# Altium integrated library Xilinx XC17S00.IntLib: 62 symbols (part 2 of 2)
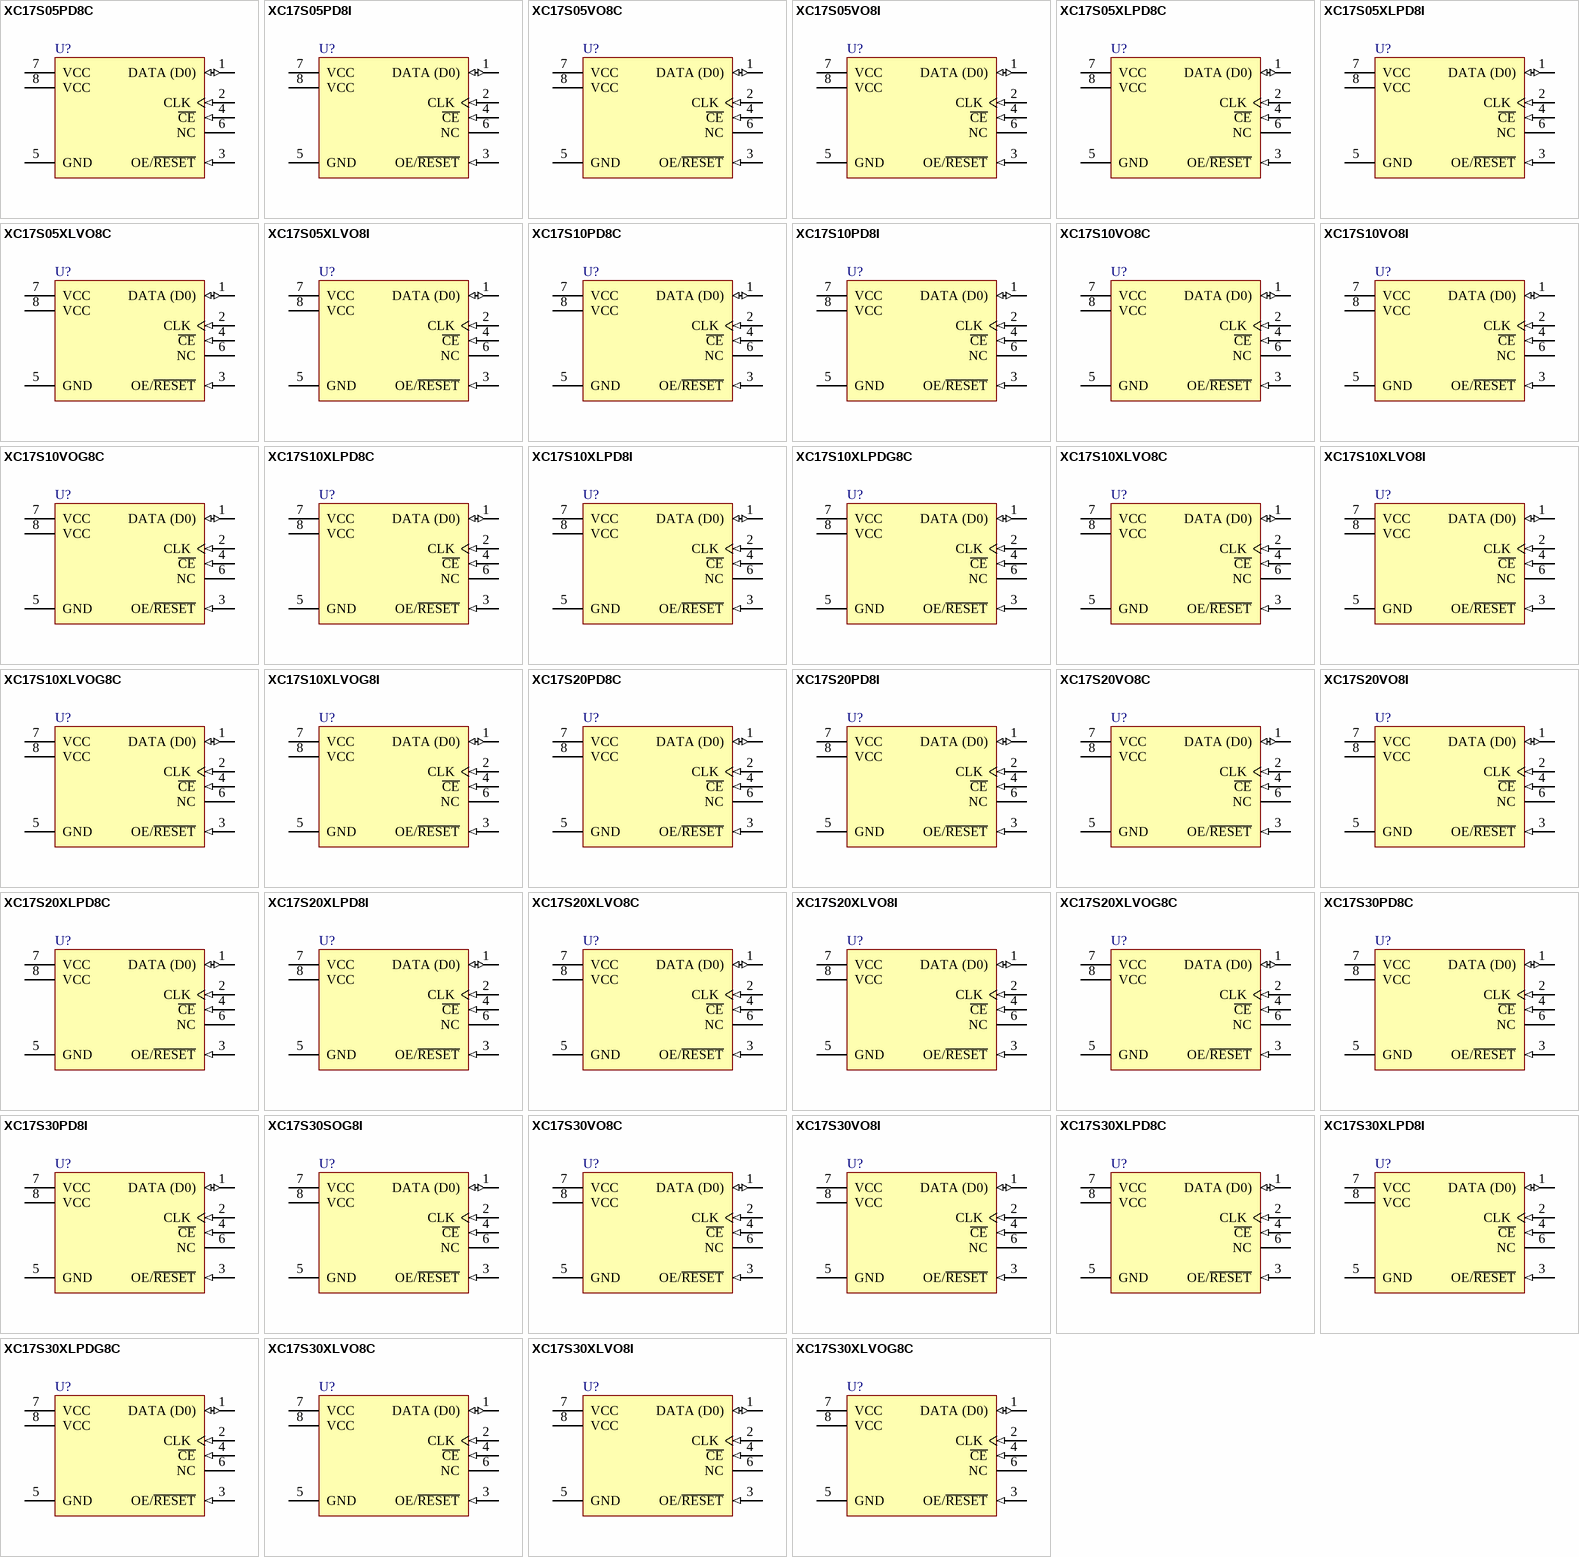
[diagram p2: symbols XC17S05PD8C to XC17S30XLVOG8C]

## XC17S30VO8I
designator U?
XC17S00 Series, One-Time Programmable Configuration 5V PROM, 8-Pin TSOP, XCS30 Compatible, Industrial Grade; Published: 17-Dec-2003; LatestRevisionDate: 16-Nov-2009; LatestRevisionNote: Updated to datasheet version 1.12, Jun-2008.; DatasheetVersion: ver1.12, Jun-2008; PackageVersion: ver1.1, Apr-2001; PackageReference: VO8; Publisher: Altium Limited; PackageDescription: 8-Pin Thin Small Outline Package (VO8); Supplier 1: Digi-Key; Supplier Part Number 1: XC17S30VO8I-ND; ComponentLink1Description: XC17S00/XL Datasheet; ComponentLink1URL: http://www.xilinx.com/support/documentation/data_sheets/ds030.pdf; ComponentLink2Description: VO8 Package Drawing; ComponentLink2URL: http://www.xilinx.com/support/documentation/package_specs/vo8.pdf; ComponentLink3Description: Configuration PROM Documents; ComponentLink3URL: http://www.xilinx.com/support/documentation/configuration_proms.htm; ComponentLink4Description: Xilinx.com Home; ComponentLink4URL: http://www.xilinx.com
footprint VO8_N (SOIC, 8-Leads, Body 4.9x3.9mm, Pitch 1.27mm, IPC Medium Density)
footprint VO8_L (SOIC, 8-Leads, Body 4.9x3.9mm, Pitch 1.27mm, IPC High Density)
footprint VO8_M (SOIC, 8-Leads, Body 4.9x3.9mm, Pitch 1.27mm, IPC Low Density)
pins: 1 DATA (D0) (io) "Data Output.", 2 CLK (in) "Clock input for internal address counter.", 3 OE/~{RESET} (in) "DATA Output Enable/Address Counter Reset", 4 ~{CE} (in) "Reset internal Address Counter, Disable DATA Output, Force device into Standby Mode.", 5 GND (power) "Ground.", 6 NC "No Connection.", 7 VCC (power) "Positive Supply.", 8 VCC (power) "Positive Supply."

## XC17S30XLPD8C
designator U?
XC17S00XL Series, One-Time Programmable Configuration 3.3V PROM, 8-Pin PDIP, XCS30XL Compatible, Commercial Grade; Published: 17-Dec-2003; DatasheetVersion: ver1.12, Jun-2008; PackageVersion: rev1.1, Apr-2001; PackageReference: PD8; Publisher: Altium Limited; PackageDescription: 8-Pin Plastic DIP (PD8); Supplier 1: Digi-Key; Supplier Part Number 1: XC17S30XLPD8C-ND; Code_JEDEC: MS-001-BA; ComponentLink1Description: XC17S00/XL Datasheet; ComponentLink1URL: http://www.xilinx.com/support/documentation/data_sheets/ds030.pdf; ComponentLink2Description: PD8 Package Drawing; ComponentLink2URL: http://www.xilinx.com/support/documentation/package_specs/pd08.pdf; ComponentLink3Description: Configuration PROM Documents; ComponentLink3URL: http://www.xilinx.com/support/documentation/configuration_proms.htm; ComponentLink4Description: Xilinx.com Home; ComponentLink4URL: http://www.xilinx.com
footprint PD8 (DIP, 8-Leads, Row Spacing 7.62mm, Pitch 2.54mm, Body 9.36x6.5mm)
pins: 1 DATA (D0) (io) "Data Output.", 2 CLK (in) "Clock input for internal address counter.", 3 OE/~{RESET} (in) "DATA Output Enable/Address Counter Reset", 4 ~{CE} (in) "Reset internal Address Counter, Disable DATA Output, Force device into Standby Mode.", 5 GND (power) "Ground.", 6 NC "No Connection.", 7 VCC (power) "Positive Supply.", 8 VCC (power) "Positive Supply."

## XC17S30XLPD8I
designator U?
XC17S00XL Series, One-Time Programmable Configuration 3.3V PROM, 8-Pin PDIP, XCS30XL Compatible, Industrial Grade; Published: 17-Dec-2003; DatasheetVersion: ver1.12, Jun-2008; PackageVersion: rev1.1, Apr-2001; PackageReference: PD8; Publisher: Altium Limited; PackageDescription: 8-Pin Plastic DIP (PD8); Supplier 1: Digi-Key; Supplier Part Number 1: XC17S30XLPD8I-ND; Code_JEDEC: MS-001-BA; ComponentLink1Description: XC17S00/XL Datasheet; ComponentLink1URL: http://www.xilinx.com/support/documentation/data_sheets/ds030.pdf; ComponentLink2Description: PD8 Package Drawing; ComponentLink2URL: http://www.xilinx.com/support/documentation/package_specs/pd08.pdf; ComponentLink3Description: Configuration PROM Documents; ComponentLink3URL: http://www.xilinx.com/support/documentation/configuration_proms.htm; ComponentLink4Description: Xilinx.com Home; ComponentLink4URL: http://www.xilinx.com
footprint PD8 (DIP, 8-Leads, Row Spacing 7.62mm, Pitch 2.54mm, Body 9.36x6.5mm)
pins: 1 DATA (D0) (io) "Data Output.", 2 CLK (in) "Clock input for internal address counter.", 3 OE/~{RESET} (in) "DATA Output Enable/Address Counter Reset", 4 ~{CE} (in) "Reset internal Address Counter, Disable DATA Output, Force device into Standby Mode.", 5 GND (power) "Ground.", 6 NC "No Connection.", 7 VCC (power) "Positive Supply.", 8 VCC (power) "Positive Supply."

## XC17S30XLPDG8C
designator U?
XC17S00XL Series, One-Time Programmable Configuration 3.3V PROM, 8-Pin PDIP, XCS30XL Compatible, Commercial Grade, Pb-Free; Published: 17-Nov-2009; DatasheetVersion: ver1.12, Jun-2008; PackageVersion: rev1.1, Apr-2001; PackageReference: PDG8; Publisher: Altium Limited; PackageDescription: 8-Pin Plastic DIP (PDG8), Pb-Free; Supplier 1: Digi-Key; Supplier Part Number 1: XC17S30XLPDG8C-ND; Supplier 2: Farnell; Supplier Part Number 2: 1193222; Supplier 3: Newark; Supplier Part Number 3: 98K3363; Code_JEDEC: MS-001-BA; ComponentLink1Description: XC17S00/XL Datasheet; ComponentLink1URL: http://www.xilinx.com/support/documentation/data_sheets/ds030.pdf; ComponentLink2Description: PDG8 Package Drawing; ComponentLink2URL: http://www.xilinx.com/support/documentation/package_specs/pd08.pdf; ComponentLink3Description: Configuration PROM Documents; ComponentLink3URL: http://www.xilinx.com/support/documentation/configuration_proms.htm; ComponentLink4Description: Xilinx.com Home; ComponentLink4URL: http://www.xilinx.com
footprint PDG8 (DIP, 8-Leads, Row Spacing 7.62mm, Pitch 2.54mm, Body 9.36x6.5mm)
pins: 1 DATA (D0) (io) "Data Output.", 2 CLK (in) "Clock input for internal address counter.", 3 OE/~{RESET} (in) "DATA Output Enable/Address Counter Reset", 4 ~{CE} (in) "Reset internal Address Counter, Disable DATA Output, Force device into Standby Mode.", 5 GND (power) "Ground.", 6 NC "No Connection.", 7 VCC (power) "Positive Supply.", 8 VCC (power) "Positive Supply."

## XC17S30XLVO8C
designator U?
XC17S00XL Series, One-Time Programmable Configuration 3.3V PROM, 8-Pin TSOP, XCS30XL Compatible, Commercial Grade; Published: 17-Dec-2003; LatestRevisionDate: 16-Nov-2009; LatestRevisionNote: Updated to datasheet version 1.12, Jun-2008.; DatasheetVersion: ver1.12, Jun-2008; PackageVersion: ver1.1, Apr-2001; PackageReference: VO8; Publisher: Altium Limited; PackageDescription: 8-Pin Thin Small Outline Package (VO8); Supplier 1: Digi-Key; Supplier Part Number 1: XC17S30XLVO8C-ND; ComponentLink1Description: XC17S00/XL Datasheet; ComponentLink1URL: http://www.xilinx.com/support/documentation/data_sheets/ds030.pdf; ComponentLink2Description: VO8 Package Drawing; ComponentLink2URL: http://www.xilinx.com/support/documentation/package_specs/vo8.pdf; ComponentLink3Description: Configuration PROM Documents; ComponentLink3URL: http://www.xilinx.com/support/documentation/configuration_proms.htm; ComponentLink4Description: Xilinx.com Home; ComponentLink4URL: http://www.xilinx.com
footprint VO8_N (SOIC, 8-Leads, Body 4.9x3.9mm, Pitch 1.27mm, IPC Medium Density)
footprint VO8_L (SOIC, 8-Leads, Body 4.9x3.9mm, Pitch 1.27mm, IPC High Density)
footprint VO8_M (SOIC, 8-Leads, Body 4.9x3.9mm, Pitch 1.27mm, IPC Low Density)
pins: 1 DATA (D0) (io) "Data Output.", 2 CLK (in) "Clock input for internal address counter.", 3 OE/~{RESET} (in) "DATA Output Enable/Address Counter Reset", 4 ~{CE} (in) "Reset internal Address Counter, Disable DATA Output, Force device into Standby Mode.", 5 GND (power) "Ground.", 6 NC "No Connection.", 7 VCC (power) "Positive Supply.", 8 VCC (power) "Positive Supply."

## XC17S30XLVO8I
designator U?
XC17S00XL Series, One-Time Programmable Configuration 3.3V PROM, 8-Pin TSOP, XCS30XL Compatible, Industrial Grade; Published: 17-Dec-2003; LatestRevisionDate: 16-Nov-2009; LatestRevisionNote: Updated to datasheet version 1.12, Jun-2008.; DatasheetVersion: ver1.12, Jun-2008; PackageVersion: ver1.1, Apr-2001; PackageReference: VO8; Publisher: Altium Limited; PackageDescription: 8-Pin Thin Small Outline Package (VO8); Supplier 1: Digi-Key; Supplier Part Number 1: XC17S30XLVO8I-ND; ComponentLink1Description: XC17S00/XL Datasheet; ComponentLink1URL: http://www.xilinx.com/support/documentation/data_sheets/ds030.pdf; ComponentLink2Description: VO8 Package Drawing; ComponentLink2URL: http://www.xilinx.com/support/documentation/package_specs/vo8.pdf; ComponentLink3Description: Configuration PROM Documents; ComponentLink3URL: http://www.xilinx.com/support/documentation/configuration_proms.htm; ComponentLink4Description: Xilinx.com Home; ComponentLink4URL: http://www.xilinx.com
footprint VO8_N (SOIC, 8-Leads, Body 4.9x3.9mm, Pitch 1.27mm, IPC Medium Density)
footprint VO8_L (SOIC, 8-Leads, Body 4.9x3.9mm, Pitch 1.27mm, IPC High Density)
footprint VO8_M (SOIC, 8-Leads, Body 4.9x3.9mm, Pitch 1.27mm, IPC Low Density)
pins: 1 DATA (D0) (io) "Data Output.", 2 CLK (in) "Clock input for internal address counter.", 3 OE/~{RESET} (in) "DATA Output Enable/Address Counter Reset", 4 ~{CE} (in) "Reset internal Address Counter, Disable DATA Output, Force device into Standby Mode.", 5 GND (power) "Ground.", 6 NC "No Connection.", 7 VCC (power) "Positive Supply.", 8 VCC (power) "Positive Supply."

## XC17S30XLVOG8C
designator U?
XC17S00XL Series, One-Time Programmable Configuration 3.3V PROM, 8-Pin TSOP, XCS30XL Compatible, Commercial Grade, Pb-Free; Published: 17-Nov-2009; DatasheetVersion: ver1.12, Jun-2008; PackageVersion: ver1.1, Apr-2001; PackageReference: VOG8; Publisher: Altium Limited; PackageDescription: 8-Pin Thin Small Outline Package (VOG8) - Pb-Free; Supplier 1: Digi-Key; Supplier Part Number 1: XC17S30XLVOG8C-ND; ComponentLink1Description: XC17S00/XL Datasheet; ComponentLink1URL: http://www.xilinx.com/support/documentation/data_sheets/ds030.pdf; ComponentLink2Description: VOG8 Package Drawing; ComponentLink2URL: http://www.xilinx.com/support/documentation/package_specs/vo8.pdf; ComponentLink3Description: Configuration PROM Documents; ComponentLink3URL: http://www.xilinx.com/support/documentation/configuration_proms.htm; ComponentLink4Description: Xilinx.com Home; ComponentLink4URL: http://www.xilinx.com
footprint VOG8_N (SOIC, 8-Leads, Body 4.9x3.9mm, Pitch 1.27mm, IPC Medium Density)
footprint VOG8_L (SOIC, 8-Leads, Body 4.9x3.9mm, Pitch 1.27mm, IPC High Density)
footprint VOG8_M (SOIC, 8-Leads, Body 4.9x3.9mm, Pitch 1.27mm, IPC Low Density)
pins: 1 DATA (D0) (io) "Data Output.", 2 CLK (in) "Clock input for internal address counter.", 3 OE/~{RESET} (in) "DATA Output Enable/Address Counter Reset", 4 ~{CE} (in) "Reset internal Address Counter, Disable DATA Output, Force device into Standby Mode.", 5 GND (power) "Ground.", 6 NC "No Connection.", 7 VCC (power) "Positive Supply.", 8 VCC (power) "Positive Supply."

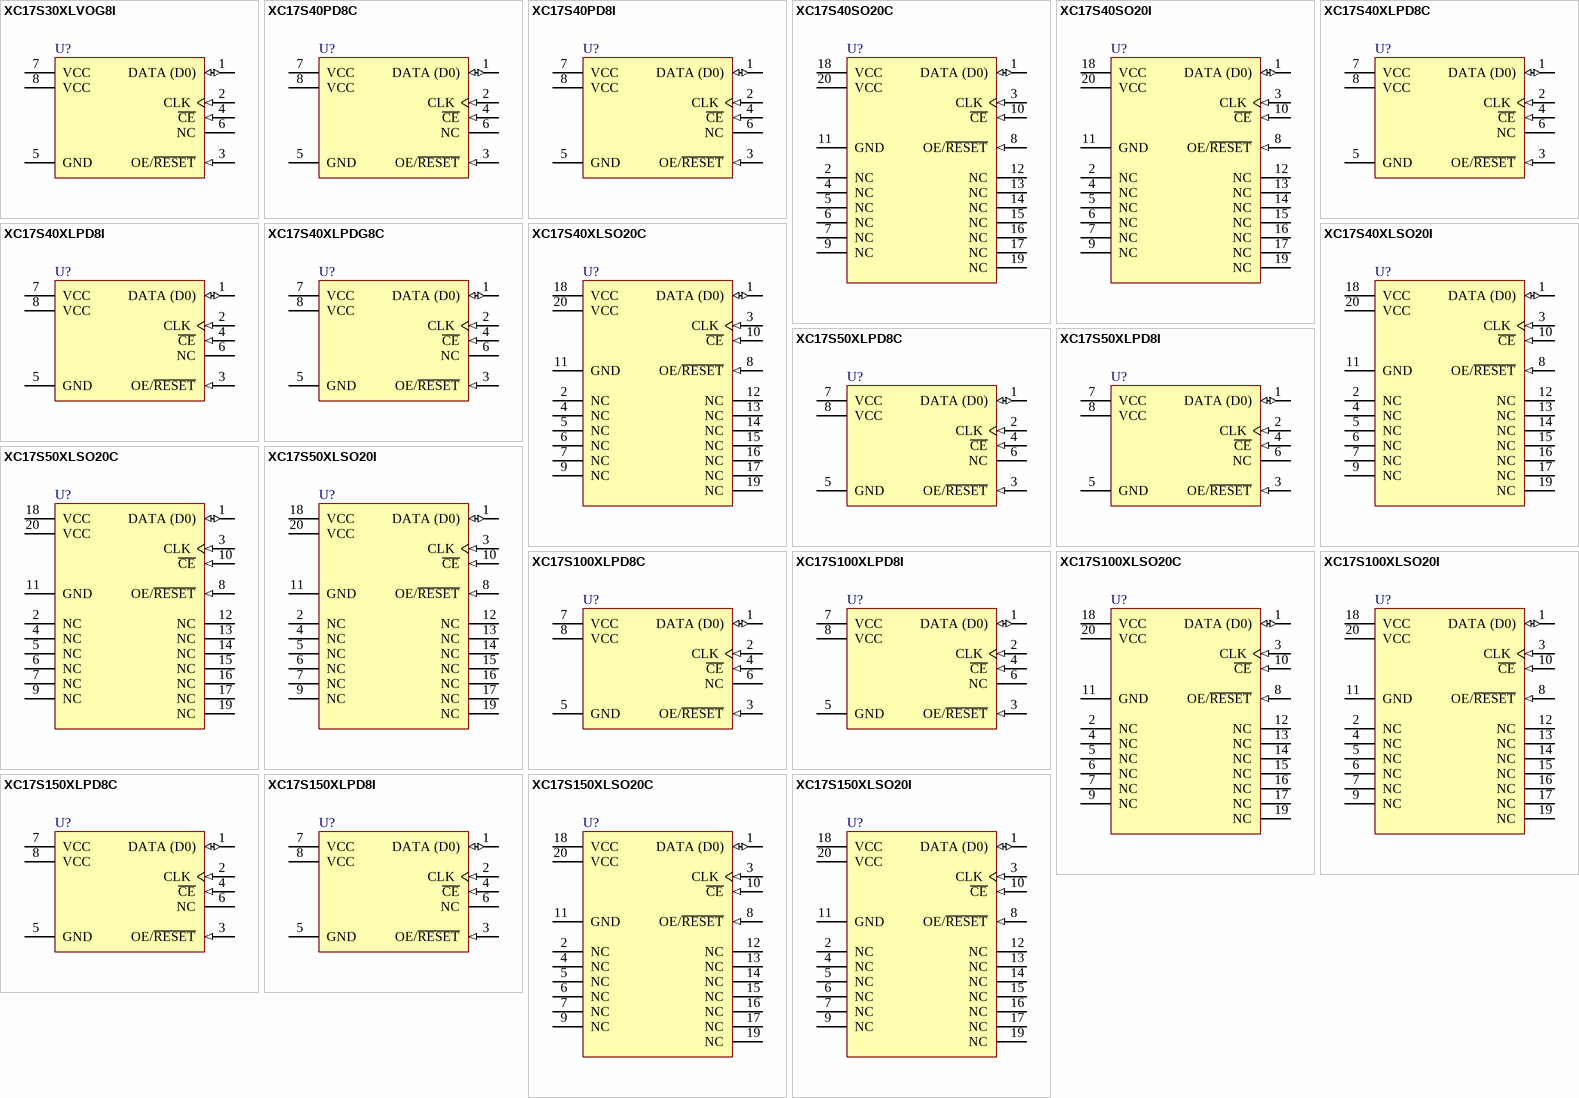
[diagram p1: symbols XC17S30XLVOG8I to XC17S150XLSO20I]

## XC17S30XLVOG8I
designator U?
XC17S00XL Series, One-Time Programmable Configuration 3.3V PROM, 8-Pin TSOP, XCS30XL Compatible, Industrial Grade, Pb-Free; Published: 17-Nov-2009; DatasheetVersion: ver1.12, Jun-2008; PackageVersion: ver1.1, Apr-2001; PackageReference: VOG8; Publisher: Altium Limited; PackageDescription: 8-Pin Thin Small Outline Package (VOG8) - Pb-Free; Supplier 1: Digi-Key; Supplier Part Number 1: XC17S30XLVOG8I-ND; ComponentLink1Description: XC17S00/XL Datasheet; ComponentLink1URL: http://www.xilinx.com/support/documentation/data_sheets/ds030.pdf; ComponentLink2Description: VOG8 Package Drawing; ComponentLink2URL: http://www.xilinx.com/support/documentation/package_specs/vo8.pdf; ComponentLink3Description: Configuration PROM Documents; ComponentLink3URL: http://www.xilinx.com/support/documentation/configuration_proms.htm; ComponentLink4Description: Xilinx.com Home; ComponentLink4URL: http://www.xilinx.com
footprint VOG8_N (SOIC, 8-Leads, Body 4.9x3.9mm, Pitch 1.27mm, IPC Medium Density)
footprint VOG8_L (SOIC, 8-Leads, Body 4.9x3.9mm, Pitch 1.27mm, IPC High Density)
footprint VOG8_M (SOIC, 8-Leads, Body 4.9x3.9mm, Pitch 1.27mm, IPC Low Density)
pins: 1 DATA (D0) (io) "Data Output.", 2 CLK (in) "Clock input for internal address counter.", 3 OE/~{RESET} (in) "DATA Output Enable/Address Counter Reset", 4 ~{CE} (in) "Reset internal Address Counter, Disable DATA Output, Force device into Standby Mode.", 5 GND (power) "Ground.", 6 NC "No Connection.", 7 VCC (power) "Positive Supply.", 8 VCC (power) "Positive Supply."

## XC17S40PD8C
designator U?
XC17S00 Series, One-Time Programmable Configuration 5V PROM, 8-Pin PDIP, XCS40 Compatible, Commercial Grade; Published: 17-Dec-2003; DatasheetVersion: ver1.12, Jun-2008; PackageVersion: rev1.1, Apr-2001; PackageReference: PD8; Publisher: Altium Limited; PackageDescription: 8-Pin Plastic DIP (PD8); Supplier 1: Digi-Key; Supplier Part Number 1: 122-1275-ND; Code_JEDEC: MS-001-BA; ComponentLink1Description: XC17S00/XL Datasheet; ComponentLink1URL: http://www.xilinx.com/support/documentation/data_sheets/ds030.pdf; ComponentLink2Description: PD8 Package Drawing; ComponentLink2URL: http://www.xilinx.com/support/documentation/package_specs/pd08.pdf; ComponentLink3Description: Configuration PROM Documents; ComponentLink3URL: http://www.xilinx.com/support/documentation/configuration_proms.htm; ComponentLink4Description: Xilinx.com Home; ComponentLink4URL: http://www.xilinx.com
footprint PD8 (DIP, 8-Leads, Row Spacing 7.62mm, Pitch 2.54mm, Body 9.36x6.5mm)
pins: 1 DATA (D0) (io) "Data Output.", 2 CLK (in) "Clock input for internal address counter.", 3 OE/~{RESET} (in) "DATA Output Enable/Address Counter Reset", 4 ~{CE} (in) "Reset internal Address Counter, Disable DATA Output, Force device into Standby Mode.", 5 GND (power) "Ground.", 6 NC "No Connection.", 7 VCC (power) "Positive Supply.", 8 VCC (power) "Positive Supply."

## XC17S40PD8I
designator U?
XC17S00 Series, One-Time Programmable Configuration 5V PROM, 8-Pin PDIP, XCS40 Compatible, Industrial Grade; Published: 17-Dec-2003; DatasheetVersion: ver1.12, Jun-2008; PackageVersion: rev1.1, Apr-2001; PackageReference: PD8; Publisher: Altium Limited; PackageDescription: 8-Pin Plastic DIP (PD8); Supplier 1: Digi-Key; Supplier Part Number 1: XC17S40PD8I-ND; Code_JEDEC: MS-001-BA; ComponentLink1Description: XC17S00/XL Datasheet; ComponentLink1URL: http://www.xilinx.com/support/documentation/data_sheets/ds030.pdf; ComponentLink2Description: PD8 Package Drawing; ComponentLink2URL: http://www.xilinx.com/support/documentation/package_specs/pd08.pdf; ComponentLink3Description: Configuration PROM Documents; ComponentLink3URL: http://www.xilinx.com/support/documentation/configuration_proms.htm; ComponentLink4Description: Xilinx.com Home; ComponentLink4URL: http://www.xilinx.com
footprint PD8 (DIP, 8-Leads, Row Spacing 7.62mm, Pitch 2.54mm, Body 9.36x6.5mm)
pins: 1 DATA (D0) (io) "Data Output.", 2 CLK (in) "Clock input for internal address counter.", 3 OE/~{RESET} (in) "DATA Output Enable/Address Counter Reset", 4 ~{CE} (in) "Reset internal Address Counter, Disable DATA Output, Force device into Standby Mode.", 5 GND (power) "Ground.", 6 NC "No Connection.", 7 VCC (power) "Positive Supply.", 8 VCC (power) "Positive Supply."

## XC17S40SO20C
designator U?
XC17S00 Series, One-Time Programmable Configuration 5V PROM, 20-Pin SOIC, XCS40 Compatible, Commercial Grade; Published: 17-Dec-2003; LatestRevisionDate: 16-Nov-2009; LatestRevisionNote: Updated to datasheet version 1.12, Jun-2008.; DatasheetVersion: ver1.12, Jun-2008; PackageVersion: ver1.0, Jun-2000; PackageReference: SO20; Publisher: Altium Limited; PackageDescription: 20-Pin Small Outline Package (SO20); Supplier 1: Digi-Key; Supplier Part Number 1: XC17S40SO20C-ND; Code_JEDEC: MS-013-AC; ComponentLink1Description: XC17S00/XL Datasheet; ComponentLink1URL: http://www.xilinx.com/support/documentation/data_sheets/ds030.pdf; ComponentLink2Description: SO20 Package Drawing; ComponentLink2URL: http://www.xilinx.com/support/documentation/package_specs/so20.pdf; ComponentLink3Description: Configuration PROM Documents; ComponentLink3URL: http://www.xilinx.com/support/documentation/configuration_proms.htm; ComponentLink4Description: Xilinx.com Home; ComponentLink4URL: http://www.xilinx.com
footprint SO20_N (SOIC, 20-Leads, Body 12.8x7.5mm, Pitch 1.27mm, IPC Medium Density)
footprint SO20_L (SOIC, 20-Leads, Body 12.8x7.5mm, Pitch 1.27mm, IPC High Density)
footprint SO20_M (SOIC, 20-Leads, Body 12.8x7.5mm, Pitch 1.27mm, IPC Low Density)
pins: 1 DATA (D0) (io) "Data Output.", 2 NC "No Connection.", 3 CLK (in) "Clock input for internal address counter.", 4 NC "No Connection.", 5 NC "No Connection.", 6 NC "No Connection.", 7 NC "No Connection.", 8 OE/~{RESET} (in) "DATA Output Enable/Address Counter Reset", 9 NC "No Connection.", 10 ~{CE} (in) "Reset internal Address Counter, Disable DATA Output, Force device into Standby Mode.", 11 GND (power) "Ground.", 12 NC "No Connection.", 13 NC "No Connection.", 14 NC "No Connection.", 15 NC "No Connection.", 16 NC "No Connection.", 17 NC "No Connection.", 18 VCC (power) "Positive Supply.", 19 NC "No Connection.", 20 VCC (power) "Positive Supply."

## XC17S40SO20I
designator U?
XC17S00 Series, One-Time Programmable Configuration 5V PROM, 20-Pin SOIC, XCS40 Compatible, Industrial Grade; Published: 17-Dec-2003; LatestRevisionDate: 16-Nov-2009; LatestRevisionNote: Updated to datasheet version 1.12, Jun-2008.; DatasheetVersion: ver1.12, Jun-2008; PackageVersion: ver1.0, Jun-2000; PackageReference: SO20; Publisher: Altium Limited; PackageDescription: 20-Pin Small Outline Package (SO20); Supplier 1: Digi-Key; Supplier Part Number 1: XC17S40SO20I-ND; Code_JEDEC: MS-013-AC; ComponentLink1Description: XC17S00/XL Datasheet; ComponentLink1URL: http://www.xilinx.com/support/documentation/data_sheets/ds030.pdf; ComponentLink2Description: SO20 Package Drawing; ComponentLink2URL: http://www.xilinx.com/support/documentation/package_specs/so20.pdf; ComponentLink3Description: Configuration PROM Documents; ComponentLink3URL: http://www.xilinx.com/support/documentation/configuration_proms.htm; ComponentLink4Description: Xilinx.com Home; ComponentLink4URL: http://www.xilinx.com
footprint SO20_N (SOIC, 20-Leads, Body 12.8x7.5mm, Pitch 1.27mm, IPC Medium Density)
footprint SO20_L (SOIC, 20-Leads, Body 12.8x7.5mm, Pitch 1.27mm, IPC High Density)
footprint SO20_M (SOIC, 20-Leads, Body 12.8x7.5mm, Pitch 1.27mm, IPC Low Density)
pins: 1 DATA (D0) (io) "Data Output.", 2 NC "No Connection.", 3 CLK (in) "Clock input for internal address counter.", 4 NC "No Connection.", 5 NC "No Connection.", 6 NC "No Connection.", 7 NC "No Connection.", 8 OE/~{RESET} (in) "DATA Output Enable/Address Counter Reset", 9 NC "No Connection.", 10 ~{CE} (in) "Reset internal Address Counter, Disable DATA Output, Force device into Standby Mode.", 11 GND (power) "Ground.", 12 NC "No Connection.", 13 NC "No Connection.", 14 NC "No Connection.", 15 NC "No Connection.", 16 NC "No Connection.", 17 NC "No Connection.", 18 VCC (power) "Positive Supply.", 19 NC "No Connection.", 20 VCC (power) "Positive Supply."

## XC17S40XLPD8C
designator U?
XC17S00XL Series, One-Time Programmable Configuration 3.3V PROM, 8-Pin PDIP, XCS40XL Compatible, Commercial Grade; Published: 17-Dec-2003; DatasheetVersion: ver1.12, Jun-2008; PackageVersion: rev1.1, Apr-2001; PackageReference: PD8; Publisher: Altium Limited; PackageDescription: 8-Pin Plastic DIP (PD8); Supplier 1: Digi-Key; Supplier Part Number 1: 122-1273-ND; Supplier 2: Farnell; Supplier Part Number 2: 3850766; Code_JEDEC: MS-001-BA; ComponentLink1Description: XC17S00/XL Datasheet; ComponentLink1URL: http://www.xilinx.com/support/documentation/data_sheets/ds030.pdf; ComponentLink2Description: PD8 Package Drawing; ComponentLink2URL: http://www.xilinx.com/support/documentation/package_specs/pd08.pdf; ComponentLink3Description: Configuration PROM Documents; ComponentLink3URL: http://www.xilinx.com/support/documentation/configuration_proms.htm; ComponentLink4Description: Xilinx.com Home; ComponentLink4URL: http://www.xilinx.com
footprint PD8 (DIP, 8-Leads, Row Spacing 7.62mm, Pitch 2.54mm, Body 9.36x6.5mm)
pins: 1 DATA (D0) (io) "Data Output.", 2 CLK (in) "Clock input for internal address counter.", 3 OE/~{RESET} (in) "DATA Output Enable/Address Counter Reset", 4 ~{CE} (in) "Reset internal Address Counter, Disable DATA Output, Force device into Standby Mode.", 5 GND (power) "Ground.", 6 NC "No Connection.", 7 VCC (power) "Positive Supply.", 8 VCC (power) "Positive Supply."

## XC17S40XLPD8I
designator U?
XC17S00XL Series, One-Time Programmable Configuration 3.3V PROM, 8-Pin PDIP, XCS40XL Compatible, Industrial Grade; Published: 17-Dec-2003; DatasheetVersion: ver1.12, Jun-2008; PackageVersion: rev1.1, Apr-2001; PackageReference: PD8; Publisher: Altium Limited; PackageDescription: 8-Pin Plastic DIP (PD8); Supplier 1: Digi-Key; Supplier Part Number 1: XC17S40XLPD8I-ND; Code_JEDEC: MS-001-BA; ComponentLink1Description: XC17S00/XL Datasheet; ComponentLink1URL: http://www.xilinx.com/support/documentation/data_sheets/ds030.pdf; ComponentLink2Description: PD8 Package Drawing; ComponentLink2URL: http://www.xilinx.com/support/documentation/package_specs/pd08.pdf; ComponentLink3Description: Configuration PROM Documents; ComponentLink3URL: http://www.xilinx.com/support/documentation/configuration_proms.htm; ComponentLink4Description: Xilinx.com Home; ComponentLink4URL: http://www.xilinx.com
footprint PD8 (DIP, 8-Leads, Row Spacing 7.62mm, Pitch 2.54mm, Body 9.36x6.5mm)
pins: 1 DATA (D0) (io) "Data Output.", 2 CLK (in) "Clock input for internal address counter.", 3 OE/~{RESET} (in) "DATA Output Enable/Address Counter Reset", 4 ~{CE} (in) "Reset internal Address Counter, Disable DATA Output, Force device into Standby Mode.", 5 GND (power) "Ground.", 6 NC "No Connection.", 7 VCC (power) "Positive Supply.", 8 VCC (power) "Positive Supply."

## XC17S40XLPDG8C
designator U?
XC17S00XL Series, One-Time Programmable Configuration 3.3V PROM, 8-Pin PDIP, XCS40XL Compatible, Commercial Grade, Pb-Free; Published: 17-Nov-2009; DatasheetVersion: ver1.12, Jun-2008; PackageVersion: rev1.1, Apr-2001; PackageReference: PDG8; Publisher: Altium Limited; PackageDescription: 8-Pin Plastic DIP (PDG8), Pb-Free; Supplier 1: Digi-Key; Supplier Part Number 1: 122-1467-ND; Supplier 2: Farnell; Supplier Part Number 2: 1193239; Supplier 3: Newark; Supplier Part Number 3: 98K3365; Code_JEDEC: MS-001-BA; ComponentLink1Description: XC17S00/XL Datasheet; ComponentLink1URL: http://www.xilinx.com/support/documentation/data_sheets/ds030.pdf; ComponentLink2Description: PDG8 Package Drawing; ComponentLink2URL: http://www.xilinx.com/support/documentation/package_specs/pd08.pdf; ComponentLink3Description: Configuration PROM Documents; ComponentLink3URL: http://www.xilinx.com/support/documentation/configuration_proms.htm; ComponentLink4Description: Xilinx.com Home; ComponentLink4URL: http://www.xilinx.com
footprint PDG8 (DIP, 8-Leads, Row Spacing 7.62mm, Pitch 2.54mm, Body 9.36x6.5mm)
pins: 1 DATA (D0) (io) "Data Output.", 2 CLK (in) "Clock input for internal address counter.", 3 OE/~{RESET} (in) "DATA Output Enable/Address Counter Reset", 4 ~{CE} (in) "Reset internal Address Counter, Disable DATA Output, Force device into Standby Mode.", 5 GND (power) "Ground.", 6 NC "No Connection.", 7 VCC (power) "Positive Supply.", 8 VCC (power) "Positive Supply."

## XC17S40XLSO20C
designator U?
XC17S00XL Series, One-Time Programmable Configuration 3.3V PROM, 20-Pin SOIC, XCS40XL Compatible, Commercial Grade; Published: 17-Dec-2003; LatestRevisionDate: 16-Nov-2009; LatestRevisionNote: Updated to datasheet version 1.12, Jun-2008.; DatasheetVersion: ver1.12, Jun-2008; PackageVersion: ver1.0, Jun-2000; PackageReference: SO20; Publisher: Altium Limited; PackageDescription: 20-Pin Small Outline Package (SO20); Supplier 1: Digi-Key; Supplier Part Number 1: XC17S40XLSO20C-ND; Code_JEDEC: MS-013-AC; ComponentLink1Description: XC17S00/XL Datasheet; ComponentLink1URL: http://www.xilinx.com/support/documentation/data_sheets/ds030.pdf; ComponentLink2Description: SO20 Package Drawing; ComponentLink2URL: http://www.xilinx.com/support/documentation/package_specs/so20.pdf; ComponentLink3Description: Configuration PROM Documents; ComponentLink3URL: http://www.xilinx.com/support/documentation/configuration_proms.htm; ComponentLink4Description: Xilinx.com Home; ComponentLink4URL: http://www.xilinx.com
footprint SO20_N (SOIC, 20-Leads, Body 12.8x7.5mm, Pitch 1.27mm, IPC Medium Density)
footprint SO20_L (SOIC, 20-Leads, Body 12.8x7.5mm, Pitch 1.27mm, IPC High Density)
footprint SO20_M (SOIC, 20-Leads, Body 12.8x7.5mm, Pitch 1.27mm, IPC Low Density)
pins: 1 DATA (D0) (io) "Data Output.", 2 NC "No Connection.", 3 CLK (in) "Clock input for internal address counter.", 4 NC "No Connection.", 5 NC "No Connection.", 6 NC "No Connection.", 7 NC "No Connection.", 8 OE/~{RESET} (in) "DATA Output Enable/Address Counter Reset", 9 NC "No Connection.", 10 ~{CE} (in) "Reset internal Address Counter, Disable DATA Output, Force device into Standby Mode.", 11 GND (power) "Ground.", 12 NC "No Connection.", 13 NC "No Connection.", 14 NC "No Connection.", 15 NC "No Connection.", 16 NC "No Connection.", 17 NC "No Connection.", 18 VCC (power) "Positive Supply.", 19 NC "No Connection.", 20 VCC (power) "Positive Supply."

## XC17S40XLSO20I
designator U?
XC17S00XL Series, One-Time Programmable Configuration 3.3V PROM, 20-Pin SOIC, XCS40XL Compatible, Industrial Grade; Published: 17-Dec-2003; LatestRevisionDate: 16-Nov-2009; LatestRevisionNote: Updated to datasheet version 1.12, Jun-2008.; DatasheetVersion: ver1.12, Jun-2008; PackageVersion: ver1.0, Jun-2000; PackageReference: SO20; Publisher: Altium Limited; PackageDescription: 20-Pin Small Outline Package (SO20); Supplier 1: Digi-Key; Supplier Part Number 1: XC17S40XLSO20I-ND; Code_JEDEC: MS-013-AC; ComponentLink1Description: XC17S00/XL Datasheet; ComponentLink1URL: http://www.xilinx.com/support/documentation/data_sheets/ds030.pdf; ComponentLink2Description: SO20 Package Drawing; ComponentLink2URL: http://www.xilinx.com/support/documentation/package_specs/so20.pdf; ComponentLink3Description: Configuration PROM Documents; ComponentLink3URL: http://www.xilinx.com/support/documentation/configuration_proms.htm; ComponentLink4Description: Xilinx.com Home; ComponentLink4URL: http://www.xilinx.com
footprint SO20_N (SOIC, 20-Leads, Body 12.8x7.5mm, Pitch 1.27mm, IPC Medium Density)
footprint SO20_L (SOIC, 20-Leads, Body 12.8x7.5mm, Pitch 1.27mm, IPC High Density)
footprint SO20_M (SOIC, 20-Leads, Body 12.8x7.5mm, Pitch 1.27mm, IPC Low Density)
pins: 1 DATA (D0) (io) "Data Output.", 2 NC "No Connection.", 3 CLK (in) "Clock input for internal address counter.", 4 NC "No Connection.", 5 NC "No Connection.", 6 NC "No Connection.", 7 NC "No Connection.", 8 OE/~{RESET} (in) "DATA Output Enable/Address Counter Reset", 9 NC "No Connection.", 10 ~{CE} (in) "Reset internal Address Counter, Disable DATA Output, Force device into Standby Mode.", 11 GND (power) "Ground.", 12 NC "No Connection.", 13 NC "No Connection.", 14 NC "No Connection.", 15 NC "No Connection.", 16 NC "No Connection.", 17 NC "No Connection.", 18 VCC (power) "Positive Supply.", 19 NC "No Connection.", 20 VCC (power) "Positive Supply."

## XC17S50XLPD8C
designator U?
XC17S00XL Series, One-Time Programmable Configuration 3.3V PROM, 8-Pin PDIP, XC2S50 Compatible, Commercial Grade; Published: 17-Dec-2003; DatasheetVersion: ver1.12, Jun-2008; PackageVersion: rev1.1, Apr-2001; PackageReference: PD8; Publisher: Altium Limited; PackageDescription: 8-Pin Plastic DIP (PD8); Code_JEDEC: MS-001-BA; ComponentLink1Description: XC17S00/XL Datasheet; ComponentLink1URL: http://www.xilinx.com/support/documentation/data_sheets/ds030.pdf; ComponentLink2Description: PD8 Package Drawing; ComponentLink2URL: http://www.xilinx.com/support/documentation/package_specs/pd08.pdf; ComponentLink3Description: Configuration PROM Documents; ComponentLink3URL: http://www.xilinx.com/support/documentation/configuration_proms.htm; ComponentLink4Description: Xilinx.com Home; ComponentLink4URL: http://www.xilinx.com
footprint PD8 (DIP, 8-Leads, Row Spacing 7.62mm, Pitch 2.54mm, Body 9.36x6.5mm)
pins: 1 DATA (D0) (io) "Data Output.", 2 CLK (in) "Clock input for internal address counter.", 3 OE/~{RESET} (in) "DATA Output Enable/Address Counter Reset", 4 ~{CE} (in) "Reset internal Address Counter, Disable DATA Output, Force device into Standby Mode.", 5 GND (power) "Ground.", 6 NC "No Connection.", 7 VCC (power) "Positive Supply.", 8 VCC (power) "Positive Supply."

## XC17S50XLPD8I
designator U?
XC17S00XL Series, One-Time Programmable Configuration 3.3V PROM, 8-Pin PDIP, XC2S50 Compatible, Industrial Grade; Published: 17-Dec-2003; DatasheetVersion: ver1.12, Jun-2008; PackageVersion: rev1.1, Apr-2001; PackageReference: PD8; Publisher: Altium Limited; PackageDescription: 8-Pin Plastic DIP (PD8); Code_JEDEC: MS-001-BA; ComponentLink1Description: XC17S00/XL Datasheet; ComponentLink1URL: http://www.xilinx.com/support/documentation/data_sheets/ds030.pdf; ComponentLink2Description: PD8 Package Drawing; ComponentLink2URL: http://www.xilinx.com/support/documentation/package_specs/pd08.pdf; ComponentLink3Description: Configuration PROM Documents; ComponentLink3URL: http://www.xilinx.com/support/documentation/configuration_proms.htm; ComponentLink4Description: Xilinx.com Home; ComponentLink4URL: http://www.xilinx.com
footprint PD8 (DIP, 8-Leads, Row Spacing 7.62mm, Pitch 2.54mm, Body 9.36x6.5mm)
pins: 1 DATA (D0) (io) "Data Output.", 2 CLK (in) "Clock input for internal address counter.", 3 OE/~{RESET} (in) "DATA Output Enable/Address Counter Reset", 4 ~{CE} (in) "Reset internal Address Counter, Disable DATA Output, Force device into Standby Mode.", 5 GND (power) "Ground.", 6 NC "No Connection.", 7 VCC (power) "Positive Supply.", 8 VCC (power) "Positive Supply."

## XC17S50XLSO20C
designator U?
XC17S00XL Series, One-Time Programmable Configuration 3.3V PROM, 20-Pin SOIC, XC2S50 Compatible, Commercial Grade; Published: 17-Dec-2003; LatestRevisionDate: 16-Nov-2009; LatestRevisionNote: Updated to datasheet version 1.12, Jun-2008.; DatasheetVersion: ver1.12, Jun-2008; PackageVersion: ver1.0, Jun-2000; PackageReference: SO20; Publisher: Altium Limited; PackageDescription: 20-Pin Small Outline Package (SO20); Code_JEDEC: MS-013-AC; ComponentLink1Description: XC17S00/XL Datasheet; ComponentLink1URL: http://www.xilinx.com/support/documentation/data_sheets/ds030.pdf; ComponentLink2Description: SO20 Package Drawing; ComponentLink2URL: http://www.xilinx.com/support/documentation/package_specs/so20.pdf; ComponentLink3Description: Configuration PROM Documents; ComponentLink3URL: http://www.xilinx.com/support/documentation/configuration_proms.htm; ComponentLink4Description: Xilinx.com Home; ComponentLink4URL: http://www.xilinx.com
footprint SO20_N (SOIC, 20-Leads, Body 12.8x7.5mm, Pitch 1.27mm, IPC Medium Density)
footprint SO20_L (SOIC, 20-Leads, Body 12.8x7.5mm, Pitch 1.27mm, IPC High Density)
footprint SO20_M (SOIC, 20-Leads, Body 12.8x7.5mm, Pitch 1.27mm, IPC Low Density)
pins: 1 DATA (D0) (io) "Data Output.", 2 NC "No Connection.", 3 CLK (in) "Clock input for internal address counter.", 4 NC "No Connection.", 5 NC "No Connection.", 6 NC "No Connection.", 7 NC "No Connection.", 8 OE/~{RESET} (in) "DATA Output Enable/Address Counter Reset", 9 NC "No Connection.", 10 ~{CE} (in) "Reset internal Address Counter, Disable DATA Output, Force device into Standby Mode.", 11 GND (power) "Ground.", 12 NC "No Connection.", 13 NC "No Connection.", 14 NC "No Connection.", 15 NC "No Connection.", 16 NC "No Connection.", 17 NC "No Connection.", 18 VCC (power) "Positive Supply.", 19 NC "No Connection.", 20 VCC (power) "Positive Supply."

## XC17S50XLSO20I
designator U?
XC17S00XL Series, One-Time Programmable Configuration 3.3V PROM, 20-Pin SOIC, XC2S50 Compatible, Industrial Grade; Published: 17-Dec-2003; LatestRevisionDate: 16-Nov-2009; LatestRevisionNote: Updated to datasheet version 1.12, Jun-2008.; DatasheetVersion: ver1.12, Jun-2008; PackageVersion: ver1.0, Jun-2000; PackageReference: SO20; Publisher: Altium Limited; PackageDescription: 20-Pin Small Outline Package (SO20); Code_JEDEC: MS-013-AC; ComponentLink1Description: XC17S00/XL Datasheet; ComponentLink1URL: http://www.xilinx.com/support/documentation/data_sheets/ds030.pdf; ComponentLink2Description: SO20 Package Drawing; ComponentLink2URL: http://www.xilinx.com/support/documentation/package_specs/so20.pdf; ComponentLink3Description: Configuration PROM Documents; ComponentLink3URL: http://www.xilinx.com/support/documentation/configuration_proms.htm; ComponentLink4Description: Xilinx.com Home; ComponentLink4URL: http://www.xilinx.com
footprint SO20_N (SOIC, 20-Leads, Body 12.8x7.5mm, Pitch 1.27mm, IPC Medium Density)
footprint SO20_L (SOIC, 20-Leads, Body 12.8x7.5mm, Pitch 1.27mm, IPC High Density)
footprint SO20_M (SOIC, 20-Leads, Body 12.8x7.5mm, Pitch 1.27mm, IPC Low Density)
pins: 1 DATA (D0) (io) "Data Output.", 2 NC "No Connection.", 3 CLK (in) "Clock input for internal address counter.", 4 NC "No Connection.", 5 NC "No Connection.", 6 NC "No Connection.", 7 NC "No Connection.", 8 OE/~{RESET} (in) "DATA Output Enable/Address Counter Reset", 9 NC "No Connection.", 10 ~{CE} (in) "Reset internal Address Counter, Disable DATA Output, Force device into Standby Mode.", 11 GND (power) "Ground.", 12 NC "No Connection.", 13 NC "No Connection.", 14 NC "No Connection.", 15 NC "No Connection.", 16 NC "No Connection.", 17 NC "No Connection.", 18 VCC (power) "Positive Supply.", 19 NC "No Connection.", 20 VCC (power) "Positive Supply."

## XC17S100XLPD8C
designator U?
XC17S00XL Series, One-Time Programmable Configuration 3.3V PROM, 8-Pin PDIP, XCS2100 Compatible, Commercial Grade; Published: 17-Dec-2003; DatasheetVersion: ver1.12, Jun-2008; PackageVersion: rev1.1, Apr-2001; PackageReference: PD8; Publisher: Altium Limited; PackageDescription: 8-Pin Plastic DIP (PD8); Supplier 1: Newark; Supplier Part Number 1: 14M7536; Code_JEDEC: MS-001-BA; ComponentLink1Description: XC17S00/XL Datasheet; ComponentLink1URL: http://www.xilinx.com/support/documentation/data_sheets/ds030.pdf; ComponentLink2Description: PD8 Package Drawing; ComponentLink2URL: http://www.xilinx.com/support/documentation/package_specs/pd08.pdf; ComponentLink3Description: Configuration PROM Documents; ComponentLink3URL: http://www.xilinx.com/support/documentation/configuration_proms.htm; ComponentLink4Description: Xilinx.com Home; ComponentLink4URL: http://www.xilinx.com
footprint PD8 (DIP, 8-Leads, Row Spacing 7.62mm, Pitch 2.54mm, Body 9.36x6.5mm)
pins: 1 DATA (D0) (io) "Data Output.", 2 CLK (in) "Clock input for internal address counter.", 3 OE/~{RESET} (in) "DATA Output Enable/Address Counter Reset", 4 ~{CE} (in) "Reset internal Address Counter, Disable DATA Output, Force device into Standby Mode.", 5 GND (power) "Ground.", 6 NC "No Connection.", 7 VCC (power) "Positive Supply.", 8 VCC (power) "Positive Supply."

## XC17S100XLPD8I
designator U?
XC17S00XL Series, One-Time Programmable Configuration 3.3V PROM, 8-Pin PDIP, XCS2100 Compatible, Industrial Grade; Published: 17-Dec-2003; DatasheetVersion: ver1.12, Jun-2008; PackageVersion: rev1.1, Apr-2001; PackageReference: PD8; Publisher: Altium Limited; PackageDescription: 8-Pin Plastic DIP (PD8); Code_JEDEC: MS-001-BA; ComponentLink1Description: XC17S00/XL Datasheet; ComponentLink1URL: http://www.xilinx.com/support/documentation/data_sheets/ds030.pdf; ComponentLink2Description: PD8 Package Drawing; ComponentLink2URL: http://www.xilinx.com/support/documentation/package_specs/pd08.pdf; ComponentLink3Description: Configuration PROM Documents; ComponentLink3URL: http://www.xilinx.com/support/documentation/configuration_proms.htm; ComponentLink4Description: Xilinx.com Home; ComponentLink4URL: http://www.xilinx.com
footprint PD8 (DIP, 8-Leads, Row Spacing 7.62mm, Pitch 2.54mm, Body 9.36x6.5mm)
pins: 1 DATA (D0) (io) "Data Output.", 2 CLK (in) "Clock input for internal address counter.", 3 OE/~{RESET} (in) "DATA Output Enable/Address Counter Reset", 4 ~{CE} (in) "Reset internal Address Counter, Disable DATA Output, Force device into Standby Mode.", 5 GND (power) "Ground.", 6 NC "No Connection.", 7 VCC (power) "Positive Supply.", 8 VCC (power) "Positive Supply."

## XC17S100XLSO20C
designator U?
XC17S00XL Series, One-Time Programmable Configuration 3.3V PROM, 20-Pin SOIC, XCS2100 Compatible, Commercial Grade; Published: 17-Dec-2003; LatestRevisionDate: 16-Nov-2009; LatestRevisionNote: Updated to datasheet version 1.12, Jun-2008.; DatasheetVersion: ver1.12, Jun-2008; PackageVersion: ver1.0, Jun-2000; PackageReference: SO20; Publisher: Altium Limited; PackageDescription: 20-Pin Small Outline Package (SO20); Code_JEDEC: MS-013-AC; ComponentLink1Description: XC17S00/XL Datasheet; ComponentLink1URL: http://www.xilinx.com/support/documentation/data_sheets/ds030.pdf; ComponentLink2Description: SO20 Package Drawing; ComponentLink2URL: http://www.xilinx.com/support/documentation/package_specs/so20.pdf; ComponentLink3Description: Configuration PROM Documents; ComponentLink3URL: http://www.xilinx.com/support/documentation/configuration_proms.htm; ComponentLink4Description: Xilinx.com Home; ComponentLink4URL: http://www.xilinx.com
footprint SO20_N (SOIC, 20-Leads, Body 12.8x7.5mm, Pitch 1.27mm, IPC Medium Density)
footprint SO20_L (SOIC, 20-Leads, Body 12.8x7.5mm, Pitch 1.27mm, IPC High Density)
footprint SO20_M (SOIC, 20-Leads, Body 12.8x7.5mm, Pitch 1.27mm, IPC Low Density)
pins: 1 DATA (D0) (io) "Data Output.", 2 NC "No Connection.", 3 CLK (in) "Clock input for internal address counter.", 4 NC "No Connection.", 5 NC "No Connection.", 6 NC "No Connection.", 7 NC "No Connection.", 8 OE/~{RESET} (in) "DATA Output Enable/Address Counter Reset", 9 NC "No Connection.", 10 ~{CE} (in) "Reset internal Address Counter, Disable DATA Output, Force device into Standby Mode.", 11 GND (power) "Ground.", 12 NC "No Connection.", 13 NC "No Connection.", 14 NC "No Connection.", 15 NC "No Connection.", 16 NC "No Connection.", 17 NC "No Connection.", 18 VCC (power) "Positive Supply.", 19 NC "No Connection.", 20 VCC (power) "Positive Supply."

## XC17S100XLSO20I
designator U?
XC17S00XL Series, One-Time Programmable Configuration 3.3V PROM, 20-Pin SOIC, XCS2100 Compatible, Industrial Grade; Published: 17-Dec-2003; LatestRevisionDate: 16-Nov-2009; LatestRevisionNote: Updated to datasheet version 1.12, Jun-2008.; DatasheetVersion: ver1.12, Jun-2008; PackageVersion: ver1.0, Jun-2000; PackageReference: SO20; Publisher: Altium Limited; PackageDescription: 20-Pin Small Outline Package (SO20); Code_JEDEC: MS-013-AC; ComponentLink1Description: XC17S00/XL Datasheet; ComponentLink1URL: http://www.xilinx.com/support/documentation/data_sheets/ds030.pdf; ComponentLink2Description: SO20 Package Drawing; ComponentLink2URL: http://www.xilinx.com/support/documentation/package_specs/so20.pdf; ComponentLink3Description: Configuration PROM Documents; ComponentLink3URL: http://www.xilinx.com/support/documentation/configuration_proms.htm; ComponentLink4Description: Xilinx.com Home; ComponentLink4URL: http://www.xilinx.com
footprint SO20_N (SOIC, 20-Leads, Body 12.8x7.5mm, Pitch 1.27mm, IPC Medium Density)
footprint SO20_L (SOIC, 20-Leads, Body 12.8x7.5mm, Pitch 1.27mm, IPC High Density)
footprint SO20_M (SOIC, 20-Leads, Body 12.8x7.5mm, Pitch 1.27mm, IPC Low Density)
pins: 1 DATA (D0) (io) "Data Output.", 2 NC "No Connection.", 3 CLK (in) "Clock input for internal address counter.", 4 NC "No Connection.", 5 NC "No Connection.", 6 NC "No Connection.", 7 NC "No Connection.", 8 OE/~{RESET} (in) "DATA Output Enable/Address Counter Reset", 9 NC "No Connection.", 10 ~{CE} (in) "Reset internal Address Counter, Disable DATA Output, Force device into Standby Mode.", 11 GND (power) "Ground.", 12 NC "No Connection.", 13 NC "No Connection.", 14 NC "No Connection.", 15 NC "No Connection.", 16 NC "No Connection.", 17 NC "No Connection.", 18 VCC (power) "Positive Supply.", 19 NC "No Connection.", 20 VCC (power) "Positive Supply."

## XC17S150XLPD8C
designator U?
XC17S00XL Series, One-Time Programmable Configuration 3.3V PROM, 8-Pin PDIP, XC2S150 Compatible, Commercial Grade; Published: 17-Dec-2003; DatasheetVersion: ver1.12, Jun-2008; PackageVersion: rev1.1, Apr-2001; PackageReference: PD8; Publisher: Altium Limited; PackageDescription: 8-Pin Plastic DIP (PD8); Code_JEDEC: MS-001-BA; ComponentLink1Description: XC17S00/XL Datasheet; ComponentLink1URL: http://www.xilinx.com/support/documentation/data_sheets/ds030.pdf; ComponentLink2Description: PD8 Package Drawing; ComponentLink2URL: http://www.xilinx.com/support/documentation/package_specs/pd08.pdf; ComponentLink3Description: Configuration PROM Documents; ComponentLink3URL: http://www.xilinx.com/support/documentation/configuration_proms.htm; ComponentLink4Description: Xilinx.com Home; ComponentLink4URL: http://www.xilinx.com
footprint PD8 (DIP, 8-Leads, Row Spacing 7.62mm, Pitch 2.54mm, Body 9.36x6.5mm)
pins: 1 DATA (D0) (io) "Data Output.", 2 CLK (in) "Clock input for internal address counter.", 3 OE/~{RESET} (in) "DATA Output Enable/Address Counter Reset", 4 ~{CE} (in) "Reset internal Address Counter, Disable DATA Output, Force device into Standby Mode.", 5 GND (power) "Ground.", 6 NC "No Connection.", 7 VCC (power) "Positive Supply.", 8 VCC (power) "Positive Supply."

## XC17S150XLPD8I
designator U?
XC17S00XL Series, One-Time Programmable Configuration 3.3V PROM, 8-Pin PDIP, XC2S150 Compatible, Industrial Grade; Published: 17-Dec-2003; DatasheetVersion: ver1.12, Jun-2008; PackageVersion: rev1.1, Apr-2001; PackageReference: PD8; Publisher: Altium Limited; PackageDescription: 8-Pin Plastic DIP (PD8); Code_JEDEC: MS-001-BA; ComponentLink1Description: XC17S00/XL Datasheet; ComponentLink1URL: http://www.xilinx.com/support/documentation/data_sheets/ds030.pdf; ComponentLink2Description: PD8 Package Drawing; ComponentLink2URL: http://www.xilinx.com/support/documentation/package_specs/pd08.pdf; ComponentLink3Description: Configuration PROM Documents; ComponentLink3URL: http://www.xilinx.com/support/documentation/configuration_proms.htm; ComponentLink4Description: Xilinx.com Home; ComponentLink4URL: http://www.xilinx.com
footprint PD8 (DIP, 8-Leads, Row Spacing 7.62mm, Pitch 2.54mm, Body 9.36x6.5mm)
pins: 1 DATA (D0) (io) "Data Output.", 2 CLK (in) "Clock input for internal address counter.", 3 OE/~{RESET} (in) "DATA Output Enable/Address Counter Reset", 4 ~{CE} (in) "Reset internal Address Counter, Disable DATA Output, Force device into Standby Mode.", 5 GND (power) "Ground.", 6 NC "No Connection.", 7 VCC (power) "Positive Supply.", 8 VCC (power) "Positive Supply."

## XC17S150XLSO20C
designator U?
XC17S00XL Series, One-Time Programmable Configuration 3.3V PROM, 20-Pin SOIC, XC2S150 Compatible, Commercial Grade; Published: 17-Dec-2003; LatestRevisionDate: 16-Nov-2009; LatestRevisionNote: Updated to datasheet version 1.12, Jun-2008.; DatasheetVersion: ver1.12, Jun-2008; PackageVersion: ver1.0, Jun-2000; PackageReference: SO20; Publisher: Altium Limited; PackageDescription: 20-Pin Small Outline Package (SO20); Code_JEDEC: MS-013-AC; ComponentLink1Description: XC17S00/XL Datasheet; ComponentLink1URL: http://www.xilinx.com/support/documentation/data_sheets/ds030.pdf; ComponentLink2Description: SO20 Package Drawing; ComponentLink2URL: http://www.xilinx.com/support/documentation/package_specs/so20.pdf; ComponentLink3Description: Configuration PROM Documents; ComponentLink3URL: http://www.xilinx.com/support/documentation/configuration_proms.htm; ComponentLink4Description: Xilinx.com Home; ComponentLink4URL: http://www.xilinx.com
footprint SO20_N (SOIC, 20-Leads, Body 12.8x7.5mm, Pitch 1.27mm, IPC Medium Density)
footprint SO20_L (SOIC, 20-Leads, Body 12.8x7.5mm, Pitch 1.27mm, IPC High Density)
footprint SO20_M (SOIC, 20-Leads, Body 12.8x7.5mm, Pitch 1.27mm, IPC Low Density)
pins: 1 DATA (D0) (io) "Data Output.", 2 NC "No Connection.", 3 CLK (in) "Clock input for internal address counter.", 4 NC "No Connection.", 5 NC "No Connection.", 6 NC "No Connection.", 7 NC "No Connection.", 8 OE/~{RESET} (in) "DATA Output Enable/Address Counter Reset", 9 NC "No Connection.", 10 ~{CE} (in) "Reset internal Address Counter, Disable DATA Output, Force device into Standby Mode.", 11 GND (power) "Ground.", 12 NC "No Connection.", 13 NC "No Connection.", 14 NC "No Connection.", 15 NC "No Connection.", 16 NC "No Connection.", 17 NC "No Connection.", 18 VCC (power) "Positive Supply.", 19 NC "No Connection.", 20 VCC (power) "Positive Supply."

## XC17S150XLSO20I
designator U?
XC17S00XL Series, One-Time Programmable Configuration 3.3V PROM, 20-Pin SOIC, XC2S150 Compatible, Industrial Grade; Published: 17-Dec-2003; LatestRevisionDate: 16-Nov-2009; LatestRevisionNote: Updated to datasheet version 1.12, Jun-2008.; DatasheetVersion: ver1.12, Jun-2008; PackageVersion: ver1.0, Jun-2000; PackageReference: SO20; Publisher: Altium Limited; PackageDescription: 20-Pin Small Outline Package (SO20); Code_JEDEC: MS-013-AC; ComponentLink1Description: XC17S00/XL Datasheet; ComponentLink1URL: http://www.xilinx.com/support/documentation/data_sheets/ds030.pdf; ComponentLink2Description: SO20 Package Drawing; ComponentLink2URL: http://www.xilinx.com/support/documentation/package_specs/so20.pdf; ComponentLink3Description: Configuration PROM Documents; ComponentLink3URL: http://www.xilinx.com/support/documentation/configuration_proms.htm; ComponentLink4Description: Xilinx.com Home; ComponentLink4URL: http://www.xilinx.com
footprint SO20_N (SOIC, 20-Leads, Body 12.8x7.5mm, Pitch 1.27mm, IPC Medium Density)
footprint SO20_L (SOIC, 20-Leads, Body 12.8x7.5mm, Pitch 1.27mm, IPC High Density)
footprint SO20_M (SOIC, 20-Leads, Body 12.8x7.5mm, Pitch 1.27mm, IPC Low Density)
pins: 1 DATA (D0) (io) "Data Output.", 2 NC "No Connection.", 3 CLK (in) "Clock input for internal address counter.", 4 NC "No Connection.", 5 NC "No Connection.", 6 NC "No Connection.", 7 NC "No Connection.", 8 OE/~{RESET} (in) "DATA Output Enable/Address Counter Reset", 9 NC "No Connection.", 10 ~{CE} (in) "Reset internal Address Counter, Disable DATA Output, Force device into Standby Mode.", 11 GND (power) "Ground.", 12 NC "No Connection.", 13 NC "No Connection.", 14 NC "No Connection.", 15 NC "No Connection.", 16 NC "No Connection.", 17 NC "No Connection.", 18 VCC (power) "Positive Supply.", 19 NC "No Connection.", 20 VCC (power) "Positive Supply."